# Altium integrated library TI Power Management Lighting and Display.IntLib: 745 symbols (part 31 of 48)
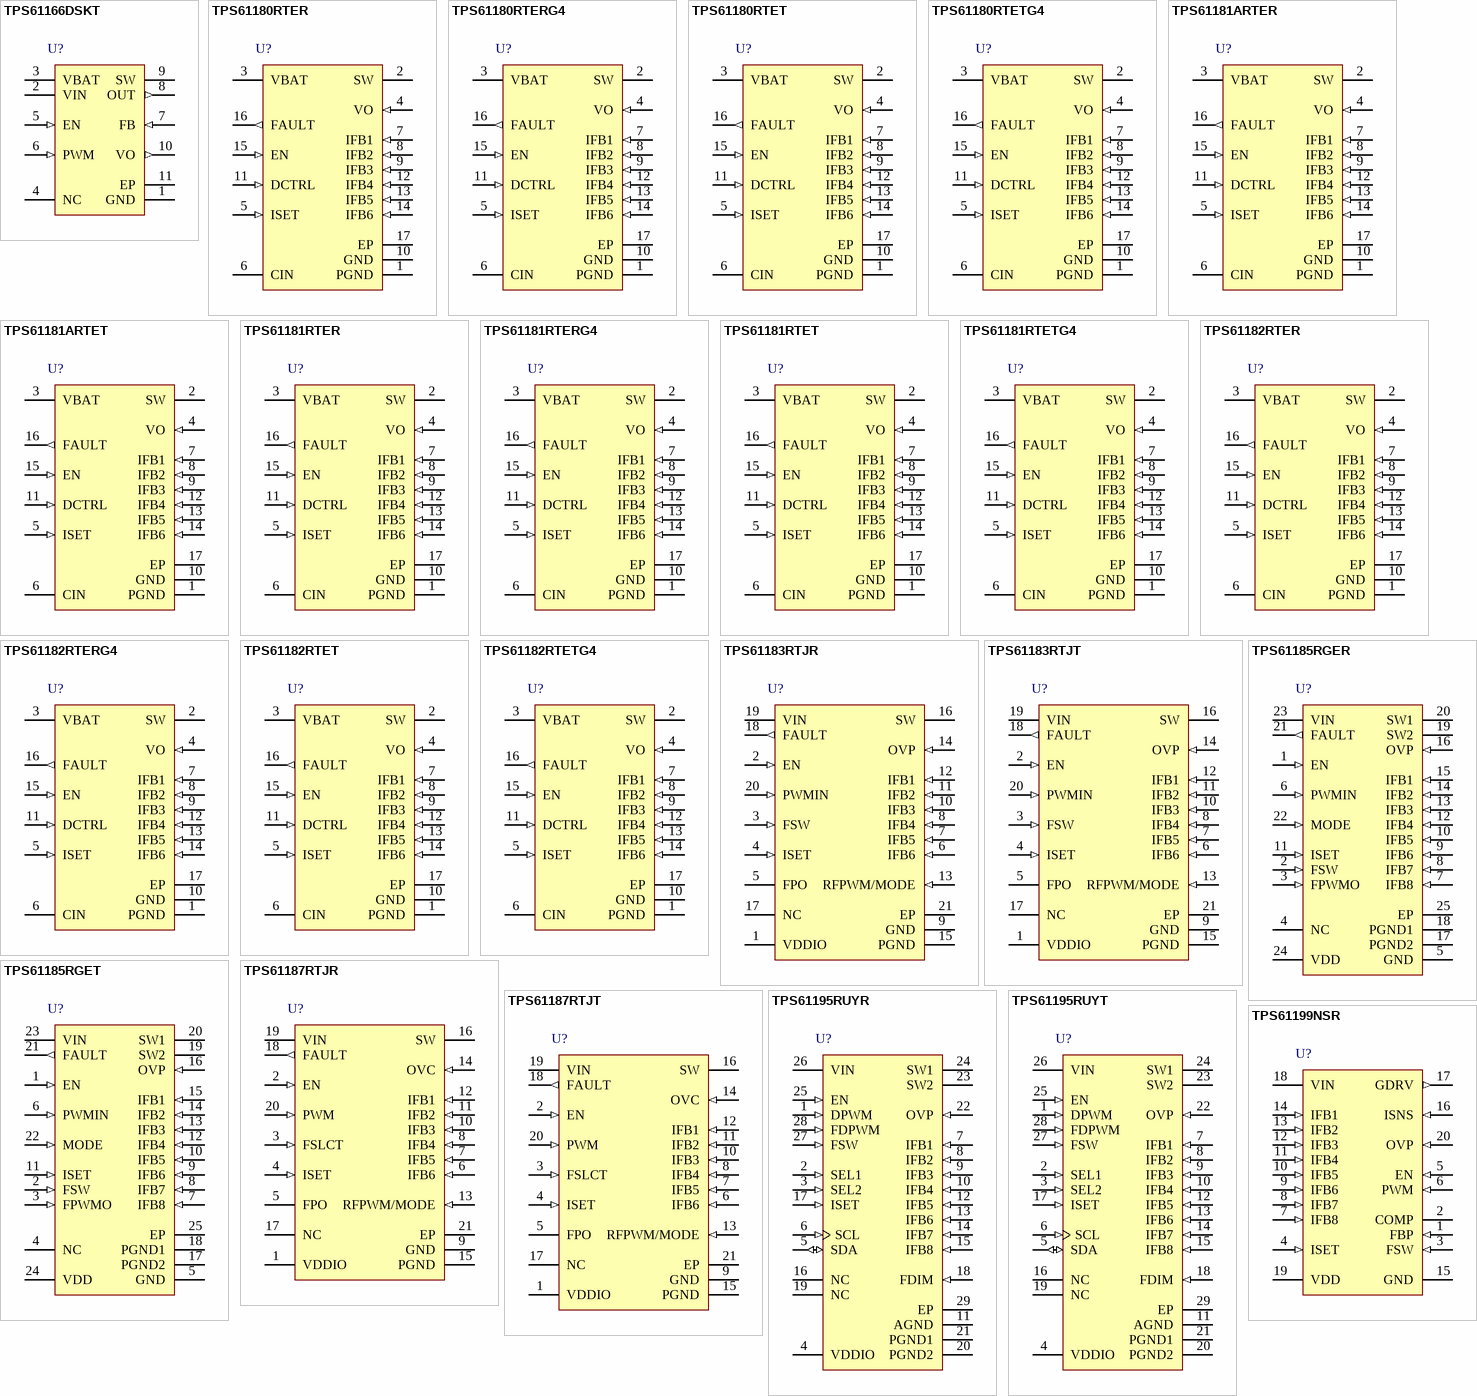
[diagram p61: symbols TPS61166DSKT to TPS61199NSR]

## TPS61195RUYT
designator U?
96 LED, 8-Channel White LED Driver for LCD Backlight with SMBus Interface, 4.5 to 21 V, -40 to 85 degC, 28-pin QFN (RUY28), Green (RoHS & no Sb/Br); Manufacturer: Texas Instruments; PartNumber: TPS61195RUYT; Dimming: TRUE; Iout(Max)(A): 0.24; Iq(Typ)(mA): 3; Rating: Catalog; Switching Frequency(Max)(kHz): 1000; Topology: Boost; Vin(Max)(V): 21; Vin(Min)(V): 4.5; DatasheetVersion: SLVSA07A; PackageVersion: 4209428/B; PackageReference: RUY28-2600X2600TP; PackageDescription: 28-Lead, Plastic Flat Pack, Body Size 4 x 4 mm, Pitch 0.4 mm; Supplier 1: Digi-Key; Supplier Part Number 1: 296-27519-2-ND; Supplier 2: Digi-Key; Supplier Part Number 2: 296-27519-1-ND; Supplier 3: Digi-Key; Supplier Part Number 3: 296-27519-6-ND; Supplier 4: Newark; Supplier Part Number 4: 79R8570; Supplier 5: Mouser; Supplier Part Number 5: 595-TPS61195RUYT; Eco-Plan: Green (RoHS & no Sb/Br); SubFamily: White LED Driver; Mounting Technology: Surface Mount; ComponentLink1Description: Manufacturer URL; ComponentLink1URL: http://www.ti.com/; ComponentLink2Description: Datasheet; ComponentLink2URL: http://www.ti.com/general/docs/lit/getliterature.tsp?genericPartNumber=TPS61195&fileType=pdf; ComponentLink3Description: Package Specification; ComponentLink3URL: http://www.ti.com/litv/pdf/mpqf229a
footprint TI-RUY28-2600X2600TP_V (QFN, 28-Leads, Body 4x4mm, Pitch 0.4mm, Thermal Pad 2.6x2.6mm)
pins: 1 DPWM (in) "PWM signal input pin. The frequency of PWM signal must be in the range of 200Hz to 20kHz", 2 SEL1 (in) "Dimming mode selection pin. See Table 1 for a detailed explanation.", 3 SEL2 (in) "Dimming mode selection pin. See Table 1 for a detailed explanation.", 4 VDDIO (power) "Serial bus voltage level pin. This pin should only have the recommended capacitive load.", 5 SDA (io) "SMBus data input/output pin", 6 SCL (in) "SMBus clock input pin", 7 IFB1 (in) "Regulated 30mA typical current sink input pins. Connect the cathode of the last LED in each of the eight strings to one of these pins.", 8 IFB2 (in) "Regulated 30mA typical current sink input pins. Connect the cathode of the last LED in each of the eight strings to one of these pins.", 9 IFB3 (in) "Regulated 30mA typical current sink input pins. Connect the cathode of the last LED in each of the eight strings to one of these pins.", 10 IFB4 (in) "Regulated 30mA typical current sink input pins. Connect the cathode of the last LED in each of the eight strings to one of these pins.", 11 AGND (power) "Analog ground", 12 IFB5 (in) "Regulated 30mA typical current sink input pins. Connect the cathode of the last LED in each of the eight strings to one of these pins.", 13 IFB6 (in) "Regulated 30mA typical current sink input pins. Connect the cathode of the last LED in each of the eight strings to one of these pins.", 14 IFB7 (in) "Regulated 30mA typical current sink input pins. Connect the cathode of the last LED in each of the eight strings to one of these pins.", 15 IFB8 (in) "Regulated 30mA typical current sink input pins. Connect the cathode of the last LED in each of the eight strings to one of these pins.", 16 NC "AGND internal. External to AGND is recommended.", 17 ISET (in) "Full-scale LED current set pin. Connecting a resistor from this pin to AGND programs the maximum current level.", 18 FDIM (in) "Dimming frequency program pin with an external resistor. Connecting a resistor from this pin to AGND programs the internal PWM dimming frequency.", 19 NC "AGND internal. External track tie to AGND is recommended.", 20 PGND2 (power) "Power ground", 21 PGND1 (power) "Power ground", 22 OVP (in) "Over-voltage program pin. A resistor divider between the boost converter output to AGND, with mid point tied to this pin sets the over-voltage protection threshold.", 23 SW2 (power) "Drain connection of the internal power FET", 24 SW1 (power) "Drain connection of the internal power FET", 25 EN (in) "SDAble and Disable Pin. EN high = SDAble, EN low = Disable and de-actives SMBus interface.", 26 VIN (power) "Supply input pin", 27 FSW (in) "Switching frequency select pin. Use a resistor to set the frequency between 600kHz to 1.0MHz", 28 FDPWM (in) "Place a 43.2k ohm resistor from this pin to AGND programming the internal clock for counting PWM input duty cycle.", 29 EP (power) "Exposed Thermal Pad"

## TPS61199NSR
designator U?
White LED Driver for LCD Monitors Backlighting, 8 to 30 V, -40 to 85 degC, 20-pin SOP (NS20), Green (RoHS & no Sb/Br); Manufacturer: Texas Instruments; PartNumber: TPS61199NSR; Iout(Max)(A): 0.48; Iq(Typ)(mA): 1.5; Rating: Catalog; Switching Frequency(Max)(kHz): 800; Topology: Boost; Vin(Max)(V): 30; Vin(Min)(V): 8; DatasheetVersion: SLVSAN3 A; PackageVersion: 4040062/C; PackageReference: NS20; PackageDescription: 20-Lead, Plastic Small Outline, Body Size 5.3 x 12.6 mm, Pitch 1.27 mm; Supplier 1: Digi-Key; Supplier Part Number 1: 296-28160-2-ND; Supplier 2: Digi-Key; Supplier Part Number 2: 296-28160-1-ND; Supplier 3: Digi-Key; Supplier Part Number 3: 296-28160-6-ND; Supplier 4: Mouser; Supplier Part Number 4: 595-TPS61199NSR; Eco-Plan: Green (RoHS & no Sb/Br); SubFamily: White LED Driver; Mounting Technology: Surface Mount; ComponentLink1Description: Manufacturer URL; ComponentLink1URL: http://www.ti.com/; ComponentLink2Description: Datasheet; ComponentLink2URL: http://www.ti.com/general/docs/lit/getliterature.tsp?genericPartNumber=TPS61199&fileType=pdf; ComponentLink3Description: Package Specification; ComponentLink3URL: http://www.ti.com/litv/pdf/msop002a
footprint TI-NS20_N (SOP, 20-Leads, Body 12.6x5.3mm, Pitch 1.27mm, IPC Medium Density)
footprint TI-NS20_L (SOP, 20-Leads, Body 12.6x5.3mm, Pitch 1.27mm, IPC High Density)
footprint TI-NS20_M (SOP, 20-Leads, Body 12.6x5.3mm, Pitch 1.27mm, IPC Low Density)
pins: 1 FBP (in) "LED short-across protection threshold program pin. See the relevant application information section", 2 COMP "Loop compensation pin. Connect an RC network to make loop stable. See the relevant application information section.", 3 FSW (in) "Boost switching frequency selection pin. Connect a resistor to set the frequency between 300kHz to 800 kHz", 4 ISET (in) "Full-scale LED current selection pin. Connect a resistor to program LED current for each string", 5 EN (in) "Enable/disable Pin. High = IC is enabled; low = IC is disabled.", 6 PWM (in) "PWM dimming signal input pin. The frequency must be in the range of 100Hz to 22 kHz", 7 IFB8 (in) "Regulated current sink input pins.", 8 IFB7 (in) "Regulated current sink input pins.", 9 IFB6 (in) "Regulated current sink input pins.", 10 IFB5 (in) "Regulated current sink input pins.", 11 IFB4 (in) "Regulated current sink input pins.", 12 IFB3 (in) "Regulated current sink input pins.", 13 IFB2 (in) "Regulated current sink input pins.", 14 IFB1 (in) "Regulated current sink input pins.", 15 GND (power) "Ground pin", 16 ISNS (in) "External MOSFET current sense positive input pin.", 17 GDRV (out) "External Switch MOSFET gate driver output pin.", 18 VIN (power) "Supply input pin. This pin can be tied to a voltage different from the power stage input.", 19 VDD (power) "Internal regulator output pin. Connect a 2.2uF capacitor between this pin to GND.", 20 OVP (in) "Over voltage protection pin. See the relevant application information section"

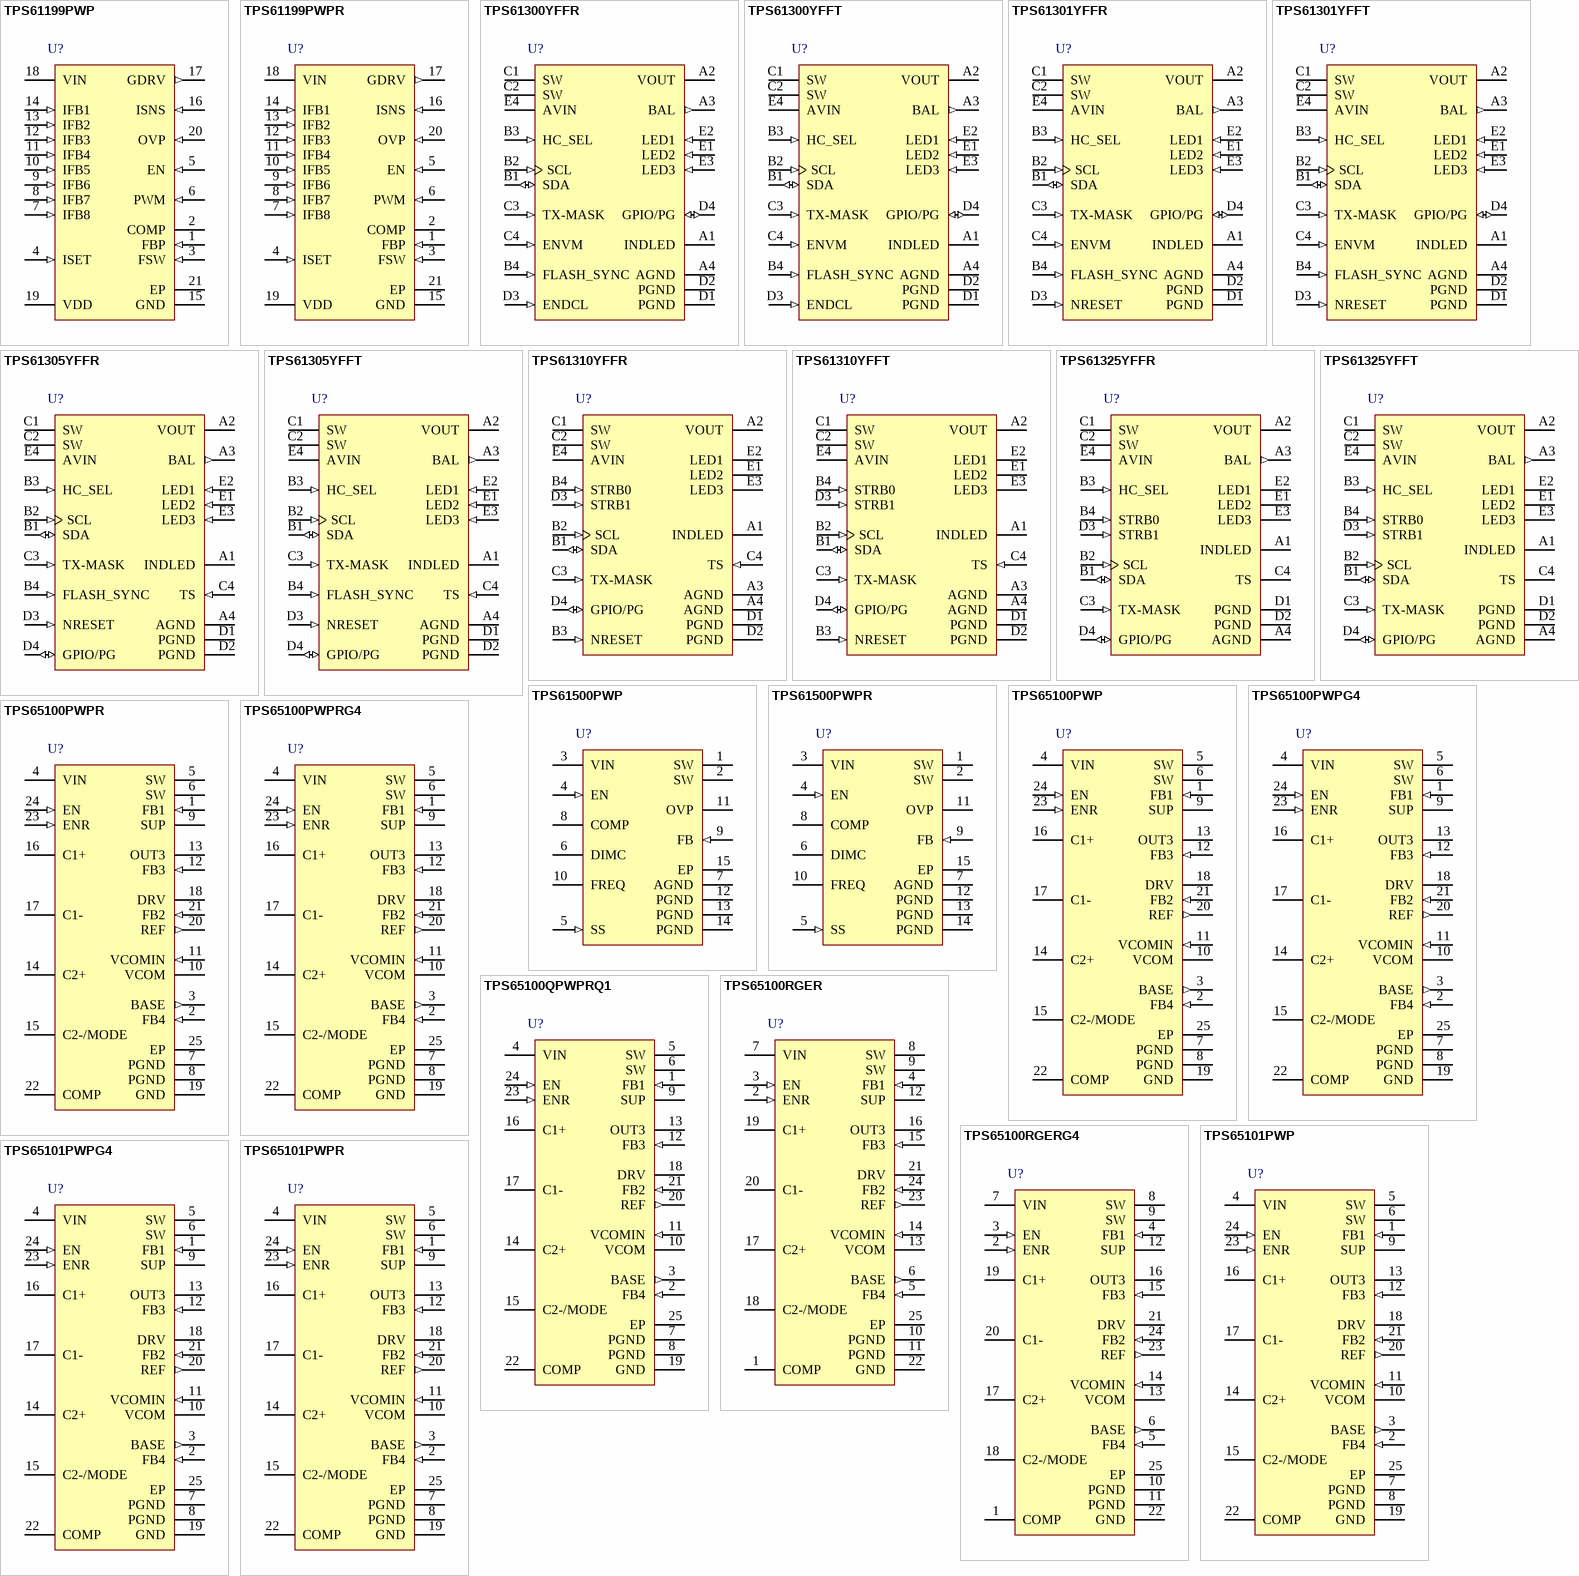
[diagram p20: symbols TPS61199PWP to TPS65101PWPR]

## TPS61199PWP
designator U?
White LED Driver for LCD Monitors Backlighting, 8 to 30 V, -40 to 85 degC, 20-pin SOP (PWP20), Green (RoHS & no Sb/Br); Manufacturer: Texas Instruments; PartNumber: TPS61199PWP; Iout(Max)(A): 0.48; Iq(Typ)(mA): 1.5; Rating: Catalog; Switching Frequency(Max)(kHz): 800; Topology: Boost; Vin(Max)(V): 30; Vin(Min)(V): 8; DatasheetVersion: SLVSAN3 A; PackageVersion: 4073225-4/I; PackageReference: PWP20-3005X2005TP; PackageDescription: 20-Pin Plastic Small Outline, Body 6.50 x 4.40 mm, Pitch 0.65 mm; Supplier 1: Digi-Key; Supplier Part Number 1: 296-34627-5-ND; Supplier 2: Newark; Supplier Part Number 2: 24T4830; Supplier 3: Mouser; Supplier Part Number 3: 595-TPS61199PWP; Eco-Plan: Green (RoHS & no Sb/Br); SubFamily: White LED Driver; Mounting Technology: Surface Mount; Code_JEDEC: MO-153; ComponentLink1Description: Manufacturer URL; ComponentLink1URL: http://www.ti.com/; ComponentLink2Description: Datasheet; ComponentLink2URL: http://www.ti.com/general/docs/lit/getliterature.tsp?genericPartNumber=TPS61199&fileType=pdf; ComponentLink3Description: Package Specification; ComponentLink3URL: http://www.ti.com/lit/ml/mhts001g/mhts001g.pdf
footprint TI-PWP20-3005X2005TP_N (SOP, 20-Leads, Body 6.5x4.4mm, Pitch 0.65mm, Thermal Pad 3.005 x 2.005mm, IPC Medium Density)
footprint TI-PWP20-3005X2005TP_L (SOP, 20-Leads, Body 6.5x4.4mm, Pitch 0.65mm, Thermal Pad 3.005 x 2.005mm, IPC High Density)
footprint TI-PWP20-3005X2005TP_M (SOP, 20-Leads, Body 6.5x4.4mm, Pitch 0.65mm, Thermal Pad 3.005 x 2.005mm, IPC Low Density)
pins: 1 FBP (in) "LED short-across protection threshold program pin. See the relevant application information section", 2 COMP "Loop compensation pin. Connect an RC network to make loop stable. See the relevant application information section.", 3 FSW (in) "Boost switching frequency selection pin. Connect a resistor to set the frequency between 300kHz to 800 kHz", 4 ISET (in) "Full-scale LED current selection pin. Connect a resistor to program LED current for each string", 5 EN (in) "Enable/disable Pin. High = IC is enabled; low = IC is disabled.", 6 PWM (in) "PWM dimming signal input pin. The frequency must be in the range of 100Hz to 22 kHz", 7 IFB8 (in) "Regulated current sink input pins.", 8 IFB7 (in) "Regulated current sink input pins.", 9 IFB6 (in) "Regulated current sink input pins.", 10 IFB5 (in) "Regulated current sink input pins.", 11 IFB4 (in) "Regulated current sink input pins.", 12 IFB3 (in) "Regulated current sink input pins.", 13 IFB2 (in) "Regulated current sink input pins.", 14 IFB1 (in) "Regulated current sink input pins.", 15 GND (power) "Ground pin", 16 ISNS (in) "External MOSFET current sense positive input pin", 17 GDRV (out) "External Switch MOSFET gate driver output pin.", 18 VIN (power) "Supply input pin. This pin can be tied to a voltage different from the power stage input.", 19 VDD (power) "Internal regulator output pin. Connect a 2.2uF capacitor between this pin to GND", 20 OVP (in) "Over voltage protection pin. See the relevant application information section", 21 EP (power) "The PowerPAD pad must be soldered to the ground. If possible, use thermal vias to connect to top and internal ground plane layers for ideal power dissipation."

## TPS61199PWPR
designator U?
White LED Driver for LCD Monitors Backlighting, 8 to 30 V, -40 to 85 degC, 20-pin SOP (PWP20), Green (RoHS & no Sb/Br); Manufacturer: Texas Instruments; PartNumber: TPS61199PWPR; Iout(Max)(A): 0.48; Iq(Typ)(mA): 1.5; Rating: Catalog; Switching Frequency(Max)(kHz): 800; Topology: Boost; Vin(Max)(V): 30; Vin(Min)(V): 8; DatasheetVersion: SLVSAN3 A; PackageVersion: 4073225-4/I; PackageReference: PWP20-3005X2005TP; PackageDescription: 20-Pin Plastic Small Outline, Body 6.50 x 4.40 mm, Pitch 0.65 mm; Supplier 1: Digi-Key; Supplier Part Number 1: 296-28161-2-ND; Supplier 2: Digi-Key; Supplier Part Number 2: 296-28161-1-ND; Supplier 3: Digi-Key; Supplier Part Number 3: 296-28161-6-ND; Supplier 4: Newark; Supplier Part Number 4: 24T4831; Supplier 5: Mouser; Supplier Part Number 5: 595-TPS61199PWPR; Eco-Plan: Green (RoHS & no Sb/Br); SubFamily: White LED Driver; Mounting Technology: Surface Mount; Code_JEDEC: MO-153; ComponentLink1Description: Manufacturer URL; ComponentLink1URL: http://www.ti.com/; ComponentLink2Description: Datasheet; ComponentLink2URL: http://www.ti.com/general/docs/lit/getliterature.tsp?genericPartNumber=TPS61199&fileType=pdf; ComponentLink3Description: Package Specification; ComponentLink3URL: http://www.ti.com/lit/ml/mhts001g/mhts001g.pdf
footprint TI-PWP20-3005X2005TP_N (SOP, 20-Leads, Body 6.5x4.4mm, Pitch 0.65mm, Thermal Pad 3.005 x 2.005mm, IPC Medium Density)
footprint TI-PWP20-3005X2005TP_L (SOP, 20-Leads, Body 6.5x4.4mm, Pitch 0.65mm, Thermal Pad 3.005 x 2.005mm, IPC High Density)
footprint TI-PWP20-3005X2005TP_M (SOP, 20-Leads, Body 6.5x4.4mm, Pitch 0.65mm, Thermal Pad 3.005 x 2.005mm, IPC Low Density)
pins: 1 FBP (in) "LED short-across protection threshold program pin. See the relevant application information section", 2 COMP "Loop compensation pin. Connect an RC network to make loop stable. See the relevant application information section.", 3 FSW (in) "Boost switching frequency selection pin. Connect a resistor to set the frequency between 300kHz to 800 kHz", 4 ISET (in) "Full-scale LED current selection pin. Connect a resistor to program LED current for each string", 5 EN (in) "Enable/disable Pin. High = IC is enabled; low = IC is disabled.", 6 PWM (in) "PWM dimming signal input pin. The frequency must be in the range of 100Hz to 22 kHz", 7 IFB8 (in) "Regulated current sink input pins.", 8 IFB7 (in) "Regulated current sink input pins.", 9 IFB6 (in) "Regulated current sink input pins.", 10 IFB5 (in) "Regulated current sink input pins.", 11 IFB4 (in) "Regulated current sink input pins.", 12 IFB3 (in) "Regulated current sink input pins.", 13 IFB2 (in) "Regulated current sink input pins.", 14 IFB1 (in) "Regulated current sink input pins.", 15 GND (power) "Ground pin", 16 ISNS (in) "External MOSFET current sense positive input pin", 17 GDRV (out) "External Switch MOSFET gate driver output pin.", 18 VIN (power) "Supply input pin. This pin can be tied to a voltage different from the power stage input.", 19 VDD (power) "Internal regulator output pin. Connect a 2.2uF capacitor between this pin to GND", 20 OVP (in) "Over voltage protection pin. See the relevant application information section", 21 EP (power) "The PowerPAD pad must be soldered to the ground. If possible, use thermal vias to connect to top and internal ground plane layers for ideal power dissipation."

## TPS61300YFFR
designator U?
1.5 A / 4.1 A Multiple LED Camera Flash Driver with I2C Compatible Interface, 2.5 to 5.5 V, -40 to 85 degC, 20-pin BGA (YFF20), Green (RoHS & no Sb/Br); Manufacturer: Texas Instruments; PartNumber: TPS61300YFFR; Dimming: TRUE; Iout(Max)(A): 1.25; Iq(Typ)(mA): 0.59; Rating: Catalog; SubFamily: White LED Driver; Switching Frequency(Max)(kHz): 2000; Topology: Boost; Vin(Max)(V): 5.5; Vin(Min)(V): 2.5; DatasheetVersion: SLVS957D; PackageVersion: 4207625-9/AJ; PackageReference: YFF20; PackageDescription: 20-Ball, Silicon Grid Array, Body Size 2.17 x 1.93 mm, Pitch 0.4 mm; Supplier 1: Digi-Key; Supplier Part Number 1: TPS61300YFFR-ND; Supplier 2: Newark; Supplier Part Number 2: 21T4331; Supplier 3: Mouser; Supplier Part Number 3: 595-TPS61300YFFR; Eco-Plan: Green (RoHS & no Sb/Br); Synchronous Rectification: TRUE; Mounting Technology: Surface Mount; ComponentLink1Description: Manufacturer URL; ComponentLink1URL: http://www.ti.com/; ComponentLink2Description: Datasheet; ComponentLink2URL: http://www.ti.com/general/docs/lit/getliterature.tsp?genericPartNumber=TPS61300&fileType=pdf; ComponentLink3Description: Package Specification; ComponentLink3URL: http://www.ti.com/lit/ds/symlink/tps61300.pdf
footprint TI-YFF20-2170X1928DE (BGA, 20-Balls, Body 2.17x1.928mm, Pitch 0.4mm)
pins: A1 INDLED (power) "This pin provides a constant current source to drive low VF LEDs. Connect to LED anode.", A2 VOUT (power) "This is the output voltage pin of the converter.", A3 BAL (out) "Balancing output for dual cells super-capacitor. In steady-state operation, this output compensates for leakage current mismatch between the cells.", A4 AGND (power) "Analog ground", B1 SDA (io) "Serial interface address/data line. This pin must not be left floating and must be terminated.", B2 SCL (in) "Serial interface clock line. This pin must not be left floating and must be terminated.", B3 HC_SEL (in) "Extended high-current mode selection input. This pin must not be left floating and must be terminated. HC_SEL = LOW: LED direct drive mode. The power stage is active and the maximum LED currents are defined as (See Datasheet)", B4 FLASH_SYNC (in) "Flashlight strobe pulse synchronization input. FLASH_SYNC = LOW: The device is operating and regulating the LED current to the DC light current level (DCLC). FLASH_SYNC = HIGH: The device is operating and regulating the LED (See Datasheet)", C1 SW (power) "Inductor connection. Drain of the internal power MOSFET. Connect to the switched side of the inductor. SW is high impedance during shutdown.", C2 SW (power) "Inductor connection. Drain of the internal power MOSFET. Connect to the switched side of the inductor. SW is high impedance during shutdown.", C3 TX-MASK (in) "RF PA synchronization control input. Pulling this pin high turns the LED from flashlight to DC light operation, thereby reducing almost instantaneously the peak current loading from the battery", C4 ENVM (in) "Enable pin for voltage mode converter. Pulling this pin high forces the device into voltage regulation mode (VOUT is preset to a fixed value, 4.95V).", D1 PGND (power) "Power ground. Connect to AGND underneath IC.", D2 PGND (power) "Power ground. Connect to AGND underneath IC.", D3 ENDCL (in) "Hardware control pin for DC light operation. Pulling this pin high forces the device into DC light operation. The ENDCL input is only active when the device is programmed into shutdown or voltage mode regulation. LED1-3 (See Datasheet)", D4 GPIO/PG (io) "This pin can either be configured as a general purpose input/output pin (GPIO) or either as an open-drain or a push-pull output to signal when the converters output voltage is within the regulation limits (PG). Per default, (See Datasheet)", E1 LED2 (in) "LED return input. This feedback pin regulates the LED current through the internal sense resistor by regulating the voltage across it. The regulation operates with typically 400mV (HC_SEL = L) or 400mV HC_SEL = H) dropout (See Datasheet)", E2 LED1 (in) "LED return input. This feedback pin regulates the LED current through the internal sense resistor by regulating the voltage across it. The regulation operates with typically 400mV (HC_SEL = L) or 400mV HC_SEL = H) dropout (See Datasheet)", E3 LED3 (in) "LED return input. This feedback pin regulates the LED current through the internal sense resistor by regulating the voltage across it. The regulation operates with typically 400mV (HC_SEL = L) or 400mV HC_SEL = H) dropout (See Datasheet)", E4 AVIN (power) "This is the input voltage pin of the device. Connect directly to the input bypass capacitor."

## TPS61300YFFT
designator U?
1.5 A / 4.1 A Multiple LED Camera Flash Driver with I2C Compatible Interface, 2.5 to 5.5 V, -40 to 85 degC, 20-pin BGA (YFF20), Green (RoHS & no Sb/Br); Manufacturer: Texas Instruments; PartNumber: TPS61300YFFT; Dimming: TRUE; Iout(Max)(A): 1.25; Iq(Typ)(mA): 0.59; Rating: Catalog; SubFamily: White LED Driver; Switching Frequency(Max)(kHz): 2000; Topology: Boost; Vin(Max)(V): 5.5; Vin(Min)(V): 2.5; DatasheetVersion: SLVS957D; PackageVersion: 4207625-9/AJ; PackageReference: YFF20; PackageDescription: 20-Ball, Silicon Grid Array, Body Size 2.17 x 1.93 mm, Pitch 0.4 mm; Supplier 1: Digi-Key; Supplier Part Number 1: 296-28022-2-ND; Supplier 2: Digi-Key; Supplier Part Number 2: 296-28022-1-ND; Supplier 3: Digi-Key; Supplier Part Number 3: 296-28022-6-ND; Supplier 4: Mouser; Supplier Part Number 4: 595-TPS61300YFFT; Eco-Plan: Green (RoHS & no Sb/Br); Synchronous Rectification: TRUE; Mounting Technology: Surface Mount; ComponentLink1Description: Manufacturer URL; ComponentLink1URL: http://www.ti.com/; ComponentLink2Description: Datasheet; ComponentLink2URL: http://www.ti.com/general/docs/lit/getliterature.tsp?genericPartNumber=TPS61300&fileType=pdf; ComponentLink3Description: Package Specification; ComponentLink3URL: http://www.ti.com/lit/ds/symlink/tps61300.pdf
footprint TI-YFF20-2170X1928DE (BGA, 20-Balls, Body 2.17x1.928mm, Pitch 0.4mm)
pins: A1 INDLED (power) "This pin provides a constant current source to drive low VF LEDs. Connect to LED anode.", A2 VOUT (power) "This is the output voltage pin of the converter.", A3 BAL (out) "Balancing output for dual cells super-capacitor. In steady-state operation, this output compensates for leakage current mismatch between the cells.", A4 AGND (power) "Analog ground", B1 SDA (io) "Serial interface address/data line. This pin must not be left floating and must be terminated.", B2 SCL (in) "Serial interface clock line. This pin must not be left floating and must be terminated.", B3 HC_SEL (in) "Extended high-current mode selection input. This pin must not be left floating and must be terminated. HC_SEL = LOW: LED direct drive mode. The power stage is active and the maximum LED currents are defined as (See Datasheet)", B4 FLASH_SYNC (in) "Flashlight strobe pulse synchronization input. FLASH_SYNC = LOW: The device is operating and regulating the LED current to the DC light current level (DCLC). FLASH_SYNC = HIGH: The device is operating and regulating the LED (See Datasheet)", C1 SW (power) "Inductor connection. Drain of the internal power MOSFET. Connect to the switched side of the inductor. SW is high impedance during shutdown.", C2 SW (power) "Inductor connection. Drain of the internal power MOSFET. Connect to the switched side of the inductor. SW is high impedance during shutdown.", C3 TX-MASK (in) "RF PA synchronization control input. Pulling this pin high turns the LED from flashlight to DC light operation, thereby reducing almost instantaneously the peak current loading from the battery", C4 ENVM (in) "Enable pin for voltage mode converter. Pulling this pin high forces the device into voltage regulation mode (VOUT is preset to a fixed value, 4.95V).", D1 PGND (power) "Power ground. Connect to AGND underneath IC.", D2 PGND (power) "Power ground. Connect to AGND underneath IC.", D3 ENDCL (in) "Hardware control pin for DC light operation. Pulling this pin high forces the device into DC light operation. The ENDCL input is only active when the device is programmed into shutdown or voltage mode regulation. LED1-3 (See Datasheet)", D4 GPIO/PG (io) "This pin can either be configured as a general purpose input/output pin (GPIO) or either as an open-drain or a push-pull output to signal when the converters output voltage is within the regulation limits (PG). Per default, (See Datasheet)", E1 LED2 (in) "LED return input. This feedback pin regulates the LED current through the internal sense resistor by regulating the voltage across it. The regulation operates with typically 400mV (HC_SEL = L) or 400mV HC_SEL = H) dropout (See Datasheet)", E2 LED1 (in) "LED return input. This feedback pin regulates the LED current through the internal sense resistor by regulating the voltage across it. The regulation operates with typically 400mV (HC_SEL = L) or 400mV HC_SEL = H) dropout (See Datasheet)", E3 LED3 (in) "LED return input. This feedback pin regulates the LED current through the internal sense resistor by regulating the voltage across it. The regulation operates with typically 400mV (HC_SEL = L) or 400mV HC_SEL = H) dropout (See Datasheet)", E4 AVIN (power) "This is the input voltage pin of the device. Connect directly to the input bypass capacitor."

## TPS61301YFFR
designator U?
1.5 A / 4.1 A Multiple LED Camera Flash Driver with I2C Compatible Interface and Hardware Reset Input, 2.5 to 5.5 V, -40 to 85 degC, 20-pin BGA (YFF20), Green (RoHS & no Sb/Br); Manufacturer: Texas Instruments; PartNumber: TPS61301YFFR; Dimming: TRUE; Iout(Max)(A): 1.25; Iq(Typ)(mA): 0.59; Rating: Catalog; SubFamily: White LED Driver; Switching Frequency(Max)(kHz): 2000; Topology: Boost; Vin(Max)(V): 5.5; Vin(Min)(V): 2.5; DatasheetVersion: SLVS957D; PackageVersion: 4207625-9/AJ; PackageReference: YFF20; PackageDescription: 20-Ball, Silicon Grid Array, Body Size 2.17 x 1.93 mm, Pitch 0.4 mm; Supplier 1: Digi-Key; Supplier Part Number 1: TPS61301YFFR-ND; Supplier 2: Newark; Supplier Part Number 2: 21T4333; Supplier 3: Mouser; Supplier Part Number 3: 595-TPS61301YFFR; Eco-Plan: Green (RoHS & no Sb/Br); Synchronous Rectification: TRUE; Mounting Technology: Surface Mount; ComponentLink1Description: Manufacturer URL; ComponentLink1URL: http://www.ti.com/; ComponentLink2Description: Datasheet; ComponentLink2URL: http://www.ti.com/general/docs/lit/getliterature.tsp?genericPartNumber=TPS61301&fileType=pdf; ComponentLink3Description: Package Specification; ComponentLink3URL: http://www.ti.com/lit/ds/symlink/tps61300.pdf
footprint TI-YFF20-2170X1928DE (BGA, 20-Balls, Body 2.17x1.928mm, Pitch 0.4mm)
pins: A1 INDLED (power) "This pin provides a constant current source to drive low VF LEDs. Connect to LED anode.", A2 VOUT (power) "This is the output voltage pin of the converter", A3 BAL (out) "Balancing output for dual cells super-capacitor. In steady-state operation, this output compensates for leakage current mismatch between the cells.", A4 AGND (power) "Analog ground.", B1 SDA (io) "Serial interface address/data line. This pin must not be left floating and must be terminated", B2 SCL (in) "Serial interface clock line. This pin must not be left floating and must be terminated.", B3 HC_SEL (in) "Extended high-current mode selection input. This pin must not be left floating and must be terminated. HC_SEL = LOW: LED direct drive mode. The power stage is active and the maximum LED currents are defined as (See Datasheet)", B4 FLASH_SYNC (in) "Flashlight strobe pulse synchronization input. FLASH_SYNC = LOW: The device is operating and regulating the LED current to the DC light current level (DCLC). FLASH_SYNC = HIGH: The device is operating and regulating the LED (See Datasheet)", C1 SW (power) "Inductor connection. Drain of the internal power MOSFET. Connect to the switched side of the inductor. SW is high impedance during shutdown.", C2 SW (power) "Inductor connection. Drain of the internal power MOSFET. Connect to the switched side of the inductor. SW is high impedance during shutdown.", C3 TX-MASK (in) "RF PA synchronization control input. Pulling this pin high turns the LED from flashlight to DC light operation, thereby reducing almost instantaneously the peak current loading from the battery.", C4 ENVM (in) "Enable pin for voltage mode converter. Pulling this pin high forces the device into voltage regulation mode (VOUT is preset to a fixed value, 4.95V).", D1 PGND (power) "Power ground. Connect to AGND underneath IC.", D2 PGND (power) "Power ground. Connect to AGND underneath IC.", D3 NRESET (in) "Master hardware reset input. NRESET = LOW: The device is forced in shutdown mode and the I2C control I/F is reset. NRESET = HIGH: The device is operating normally under the control of the I2C interface.", D4 GPIO/PG (io) "This pin can either be configured as a general purpose input/output pin (GPIO) or either as an open-drain or a push-pull output to signal when the converters output voltage is within the regulation limits (PG). Per default, (See Datasheet)", E1 LED2 (in) "LED return input. This feedback pin regulates the LED current through the internal sense resistor by regulating the voltage across it. The regulation operates with typically 400mV (HC_SEL = L) or 400mV (HC_SEL = H) dropout (See Datasheet)", E2 LED1 (in) "LED return input. This feedback pin regulates the LED current through the internal sense resistor by regulating the voltage across it. The regulation operates with typically 400mV (HC_SEL = L) or 400mV (HC_SEL = H) dropout (See Datasheet)", E3 LED3 (in) "LED return input. This feedback pin regulates the LED current through the internal sense resistor by regulating the voltage across it. The regulation operates with typically 400mV (HC_SEL = L) or 400mV (HC_SEL = H) dropout (See Datasheet)", E4 AVIN (power) "This is the input voltage pin of the device. Connect directly to the input bypass capacitor."

## TPS61301YFFT
designator U?
1.5 A / 4.1 A Multiple LED Camera Flash Driver with I2C Compatible Interface and Hardware Reset Input, 2.5 to 5.5 V, -40 to 85 degC, 20-pin BGA (YFF20), Green (RoHS & no Sb/Br); Manufacturer: Texas Instruments; PartNumber: TPS61301YFFT; Dimming: TRUE; Iout(Max)(A): 1.25; Iq(Typ)(mA): 0.59; Rating: Catalog; SubFamily: White LED Driver; Switching Frequency(Max)(kHz): 2000; Topology: Boost; Vin(Max)(V): 5.5; Vin(Min)(V): 2.5; DatasheetVersion: SLVS957D; PackageVersion: 4207625-9/AJ; PackageReference: YFF20; PackageDescription: 20-Ball, Silicon Grid Array, Body Size 2.17 x 1.93 mm, Pitch 0.4 mm; Supplier 1: Digi-Key; Supplier Part Number 1: 296-28020-2-ND; Supplier 2: Digi-Key; Supplier Part Number 2: 296-28020-1-ND; Supplier 3: Digi-Key; Supplier Part Number 3: 296-28020-6-ND; Supplier 4: Newark; Supplier Part Number 4: 21T4334; Supplier 5: Mouser; Supplier Part Number 5: 595-TPS61301YFFT; Eco-Plan: Green (RoHS & no Sb/Br); Synchronous Rectification: TRUE; Mounting Technology: Surface Mount; ComponentLink1Description: Manufacturer URL; ComponentLink1URL: http://www.ti.com/; ComponentLink2Description: Datasheet; ComponentLink2URL: http://www.ti.com/general/docs/lit/getliterature.tsp?genericPartNumber=TPS61301&fileType=pdf; ComponentLink3Description: Package Specification; ComponentLink3URL: http://www.ti.com/lit/ds/symlink/tps61300.pdf
footprint TI-YFF20-2170X1928DE (BGA, 20-Balls, Body 2.17x1.928mm, Pitch 0.4mm)
pins: A1 INDLED (power) "This pin provides a constant current source to drive low VF LEDs. Connect to LED anode.", A2 VOUT (power) "This is the output voltage pin of the converter", A3 BAL (out) "Balancing output for dual cells super-capacitor. In steady-state operation, this output compensates for leakage current mismatch between the cells.", A4 AGND (power) "Analog ground.", B1 SDA (io) "Serial interface address/data line. This pin must not be left floating and must be terminated", B2 SCL (in) "Serial interface clock line. This pin must not be left floating and must be terminated.", B3 HC_SEL (in) "Extended high-current mode selection input. This pin must not be left floating and must be terminated. HC_SEL = LOW: LED direct drive mode. The power stage is active and the maximum LED currents are defined as (See Datasheet)", B4 FLASH_SYNC (in) "Flashlight strobe pulse synchronization input. FLASH_SYNC = LOW: The device is operating and regulating the LED current to the DC light current level (DCLC). FLASH_SYNC = HIGH: The device is operating and regulating the LED (See Datasheet)", C1 SW (power) "Inductor connection. Drain of the internal power MOSFET. Connect to the switched side of the inductor. SW is high impedance during shutdown.", C2 SW (power) "Inductor connection. Drain of the internal power MOSFET. Connect to the switched side of the inductor. SW is high impedance during shutdown.", C3 TX-MASK (in) "RF PA synchronization control input. Pulling this pin high turns the LED from flashlight to DC light operation, thereby reducing almost instantaneously the peak current loading from the battery.", C4 ENVM (in) "Enable pin for voltage mode converter. Pulling this pin high forces the device into voltage regulation mode (VOUT is preset to a fixed value, 4.95V).", D1 PGND (power) "Power ground. Connect to AGND underneath IC.", D2 PGND (power) "Power ground. Connect to AGND underneath IC.", D3 NRESET (in) "Master hardware reset input. NRESET = LOW: The device is forced in shutdown mode and the I2C control I/F is reset. NRESET = HIGH: The device is operating normally under the control of the I2C interface.", D4 GPIO/PG (io) "This pin can either be configured as a general purpose input/output pin (GPIO) or either as an open-drain or a push-pull output to signal when the converters output voltage is within the regulation limits (PG). Per default, (See Datasheet)", E1 LED2 (in) "LED return input. This feedback pin regulates the LED current through the internal sense resistor by regulating the voltage across it. The regulation operates with typically 400mV (HC_SEL = L) or 400mV (HC_SEL = H) dropout (See Datasheet)", E2 LED1 (in) "LED return input. This feedback pin regulates the LED current through the internal sense resistor by regulating the voltage across it. The regulation operates with typically 400mV (HC_SEL = L) or 400mV (HC_SEL = H) dropout (See Datasheet)", E3 LED3 (in) "LED return input. This feedback pin regulates the LED current through the internal sense resistor by regulating the voltage across it. The regulation operates with typically 400mV (HC_SEL = L) or 400mV (HC_SEL = H) dropout (See Datasheet)", E4 AVIN (power) "This is the input voltage pin of the device. Connect directly to the input bypass capacitor."

## TPS61305YFFR
designator U?
1.5 A / 4.1 A Multiple LED Camera Flash Driver with I2C Compatible Interface and LED Temp Monitoring, 2.5 to 5.5 V, -40 to 85 degC, 20-pin BGA (YFF20), Green (RoHS & no Sb/Br); Manufacturer: Texas Instruments; PartNumber: TPS61305YFFR; Dimming: TRUE; Iout(Max)(A): 1.25; Iq(Typ)(mA): 0.59; Rating: Catalog; SubFamily: White LED Driver; Switching Frequency(Max)(kHz): 2000; Topology: Boost; Vin(Max)(V): 5.5; Vin(Min)(V): 2.5; DatasheetVersion: SLVS957D; PackageVersion: 4207625-9/AJ; PackageReference: YFF20; PackageDescription: 20-Ball, Silicon Grid Array, Body Size 2.17 x 1.93 mm, Pitch 0.4 mm; Supplier 1: Digi-Key; Supplier Part Number 1: TPS61305YFFR-ND; Supplier 2: Mouser; Supplier Part Number 2: 595-TPS61305YFFR; Eco-Plan: Green (RoHS & no Sb/Br); Synchronous Rectification: TRUE; Mounting Technology: Surface Mount; ComponentLink1Description: Manufacturer URL; ComponentLink1URL: http://www.ti.com/; ComponentLink2Description: Datasheet; ComponentLink2URL: http://www.ti.com/general/docs/lit/getliterature.tsp?genericPartNumber=TPS61305&fileType=pdf; ComponentLink3Description: Package Specification; ComponentLink3URL: http://www.ti.com/lit/ds/symlink/tps61300.pdf
footprint TI-YFF20-2170X1928DE (BGA, 20-Balls, Body 2.17x1.928mm, Pitch 0.4mm)
pins: A1 INDLED (power) "This pin provides a constant current source to drive low VF LEDs. Connect to LED anode.", A2 VOUT (power) "This is the output voltage pin of the converter", A3 BAL (out) "Balancing output for dual cells super-capacitor. In steady-state operation, this output compensates for leakage current mismatch between the cells.", A4 AGND (power) "Analog ground.", B1 SDA (io) "Serial interface address/data line. This pin must not be left floating and must be terminated", B2 SCL (in) "Serial interface clock line. This pin must not be left floating and must be terminated.", B3 HC_SEL (in) "Extended high-current mode selection input. This pin must not be left floating and must be terminated. HC_SEL = LOW: LED direct drive mode. The power stage is active and the maximum LED currents are defined as (See Datasheet)", B4 FLASH_SYNC (in) "Flashlight strobe pulse synchronization input. FLASH_SYNC = LOW: The device is operating and regulating the LED current to the DC light current level (DCLC). FLASH_SYNC = HIGH: The device is operating and regulating the LED (See Datasheet)", C1 SW (power) "Inductor connection. Drain of the internal power MOSFET. Connect to the switched side of the inductor. SW is high impedance during shutdown.", C2 SW (power) "Inductor connection. Drain of the internal power MOSFET. Connect to the switched side of the inductor. SW is high impedance during shutdown.", C3 TX-MASK (in) "RF PA synchronization control input. Pulling this pin high turns the LED from flashlight to DC light operation, thereby reducing almost instantaneously the peak current loading from the battery.", C4 TS (in) "NTC resistor connection. This pin can be used to monitor the LED temperature. Connect a 220k ohm NTC resistor from the TS input to ground. In case this functionality is not desired, the TS input should be tied to AVIN or (See Datasheet)", D1 PGND (power) "Power ground. Connect to AGND underneath IC.", D2 PGND (power) "Power ground. Connect to AGND underneath IC.", D3 NRESET (in) "Master hardware reset input. NRESET = LOW: The device is forced in shutdown mode and the I2C control I/F is reset. NRESET = HIGH: The device is operating normally under the control of the I2C interface.", D4 GPIO/PG (io) "This pin can either be configured as a general purpose input/output pin (GPIO) or either as an open-drain or a push-pull output to signal when the converters output voltage is within the regulation limits (PG). Per default, (See Datasheet)", E1 LED2 (in) "LED return input. This feedback pin regulates the LED current through the internal sense resistor by regulating the voltage across it. The regulation operates with typically 400mV (HC_SEL = L) or 400mV (HC_SEL = H) dropout (See Datasheet)", E2 LED1 (in) "LED return input. This feedback pin regulates the LED current through the internal sense resistor by regulating the voltage across it. The regulation operates with typically 400mV (HC_SEL = L) or 400mV (HC_SEL = H) dropout (See Datasheet)", E3 LED3 (in) "LED return input. This feedback pin regulates the LED current through the internal sense resistor by regulating the voltage across it. The regulation operates with typically 400mV (HC_SEL = L) or 400mV (HC_SEL = H) dropout (See Datasheet)", E4 AVIN (power) "This is the input voltage pin of the device. Connect directly to the input bypass capacitor."

## TPS61305YFFT
designator U?
1.5 A / 4.1 A Multiple LED Camera Flash Driver with I2C Compatible Interface and LED Temp Monitoring, 2.5 to 5.5 V, -40 to 85 degC, 20-pin BGA (YFF20), Green (RoHS & no Sb/Br); Manufacturer: Texas Instruments; PartNumber: TPS61305YFFT; Dimming: TRUE; Iout(Max)(A): 1.25; Iq(Typ)(mA): 0.59; Rating: Catalog; SubFamily: White LED Driver; Switching Frequency(Max)(kHz): 2000; Topology: Boost; Vin(Max)(V): 5.5; Vin(Min)(V): 2.5; DatasheetVersion: SLVS957D; PackageVersion: 4207625-9/AJ; PackageReference: YFF20; PackageDescription: 20-Ball, Silicon Grid Array, Body Size 2.17 x 1.93 mm, Pitch 0.4 mm; Supplier 1: Digi-Key; Supplier Part Number 1: 296-28023-2-ND; Supplier 2: Digi-Key; Supplier Part Number 2: 296-28023-1-ND; Supplier 3: Digi-Key; Supplier Part Number 3: 296-28023-6-ND; Supplier 4: Mouser; Supplier Part Number 4: 595-TPS61305YFFT; Eco-Plan: Green (RoHS & no Sb/Br); Synchronous Rectification: TRUE; Mounting Technology: Surface Mount; ComponentLink1Description: Manufacturer URL; ComponentLink1URL: http://www.ti.com/; ComponentLink2Description: Datasheet; ComponentLink2URL: http://www.ti.com/general/docs/lit/getliterature.tsp?genericPartNumber=TPS61305&fileType=pdf; ComponentLink3Description: Package Specification; ComponentLink3URL: http://www.ti.com/lit/ds/symlink/tps61300.pdf
footprint TI-YFF20-2170X1928DE (BGA, 20-Balls, Body 2.17x1.928mm, Pitch 0.4mm)
pins: A1 INDLED (power) "This pin provides a constant current source to drive low VF LEDs. Connect to LED anode.", A2 VOUT (power) "This is the output voltage pin of the converter", A3 BAL (out) "Balancing output for dual cells super-capacitor. In steady-state operation, this output compensates for leakage current mismatch between the cells.", A4 AGND (power) "Analog ground.", B1 SDA (io) "Serial interface address/data line. This pin must not be left floating and must be terminated", B2 SCL (in) "Serial interface clock line. This pin must not be left floating and must be terminated.", B3 HC_SEL (in) "Extended high-current mode selection input. This pin must not be left floating and must be terminated. HC_SEL = LOW: LED direct drive mode. The power stage is active and the maximum LED currents are defined as (See Datasheet)", B4 FLASH_SYNC (in) "Flashlight strobe pulse synchronization input. FLASH_SYNC = LOW: The device is operating and regulating the LED current to the DC light current level (DCLC). FLASH_SYNC = HIGH: The device is operating and regulating the LED (See Datasheet)", C1 SW (power) "Inductor connection. Drain of the internal power MOSFET. Connect to the switched side of the inductor. SW is high impedance during shutdown.", C2 SW (power) "Inductor connection. Drain of the internal power MOSFET. Connect to the switched side of the inductor. SW is high impedance during shutdown.", C3 TX-MASK (in) "RF PA synchronization control input. Pulling this pin high turns the LED from flashlight to DC light operation, thereby reducing almost instantaneously the peak current loading from the battery.", C4 TS (in) "NTC resistor connection. This pin can be used to monitor the LED temperature. Connect a 220k ohm NTC resistor from the TS input to ground. In case this functionality is not desired, the TS input should be tied to AVIN or (See Datasheet)", D1 PGND (power) "Power ground. Connect to AGND underneath IC.", D2 PGND (power) "Power ground. Connect to AGND underneath IC.", D3 NRESET (in) "Master hardware reset input. NRESET = LOW: The device is forced in shutdown mode and the I2C control I/F is reset. NRESET = HIGH: The device is operating normally under the control of the I2C interface.", D4 GPIO/PG (io) "This pin can either be configured as a general purpose input/output pin (GPIO) or either as an open-drain or a push-pull output to signal when the converters output voltage is within the regulation limits (PG). Per default, (See Datasheet)", E1 LED2 (in) "LED return input. This feedback pin regulates the LED current through the internal sense resistor by regulating the voltage across it. The regulation operates with typically 400mV (HC_SEL = L) or 400mV (HC_SEL = H) dropout (See Datasheet)", E2 LED1 (in) "LED return input. This feedback pin regulates the LED current through the internal sense resistor by regulating the voltage across it. The regulation operates with typically 400mV (HC_SEL = L) or 400mV (HC_SEL = H) dropout (See Datasheet)", E3 LED3 (in) "LED return input. This feedback pin regulates the LED current through the internal sense resistor by regulating the voltage across it. The regulation operates with typically 400mV (HC_SEL = L) or 400mV (HC_SEL = H) dropout (See Datasheet)", E4 AVIN (power) "This is the input voltage pin of the device. Connect directly to the input bypass capacitor."

## TPS61310YFFR
designator U?
1.5 A Multiple LED Camera Flash Driver with I2C Compatible Interface, 2.5 to 5.5 V, -40 to 85 degC, 20-pin BGA (YFF20), Green (RoHS & no Sb/Br); Manufacturer: Texas Instruments; PartNumber: TPS61310YFFR; Dimming: TRUE; Iout(Max)(A): 1.5; Iq(Typ)(mA): 0.59; Rating: Catalog; SubFamily: White LED Driver; Switching Frequency(Max)(kHz): 2000; Topology: Boost; Vin(Max)(V): 5.5; Vin(Min)(V): 2.5; DatasheetVersion: SLVS978C; PackageVersion: 4207625-9/AJ; PackageReference: YFF20; PackageDescription: 20-Ball, Silicon Grid Array, Body Size 2.17 x 1.93 mm, Pitch 0.4 mm; Supplier 1: Digi-Key; Supplier Part Number 1: 296-27243-2-ND; Supplier 2: Digi-Key; Supplier Part Number 2: 296-27243-1-ND; Supplier 3: Digi-Key; Supplier Part Number 3: 296-27243-6-ND; Supplier 4: Newark; Supplier Part Number 4: 72R6648; Supplier 5: Mouser; Supplier Part Number 5: 595-TPS61310YFFR; Eco-Plan: Green (RoHS & no Sb/Br); Synchronous Rectification: TRUE; Mounting Technology: Surface Mount; ComponentLink1Description: Manufacturer URL; ComponentLink1URL: http://www.ti.com/; ComponentLink2Description: Datasheet; ComponentLink2URL: http://www.ti.com/general/docs/lit/getliterature.tsp?genericPartNumber=TPS61310&fileType=pdf; ComponentLink3Description: Package Specification; ComponentLink3URL: http://www.ti.com/lit/ds/symlink/tps61300.pdf
footprint TI-YFF20-2170X1928DE (BGA, 20-Balls, Body 2.17x1.928mm, Pitch 0.4mm)
pins: A1 INDLED (power) "This pin provides a constant current source to drive low VF LEDs. Connect to LED anode.", A2 VOUT (power) "This is the output voltage pin of the converter.", A3 AGND (power) "Analog ground.", A4 AGND (power) "Analog ground.", B1 SDA (io) "Serial interface address/data line. This pin must not be left floating and must be terminated.", B2 SCL (in) "Serial interface clock line. This pin must not be left floating and must be terminated.", B3 NRESET (in) "Master hardware reset input. NRESET = LOW: The device is forced in shutdown mode and the I2C control I/F and all internal control registers are reset. NRESET = HIGH: The device is operating normally under the control of the (See Datasheet)", B4 STRB0 (in) "LED1/2/3 enable logic input. This pin can be used to enable/disable the high-power LEDs connected to the device. STRB0 = LOW: LED1, LED2 and LED3 current regulators are turned off. STRB0 = HIGH: LED2, LED2 and LED3 current (See Datasheet)", C1 SW (power) "Inductor connection. Drain of the internal power MOSFET. Connect to the switched side of the inductor. SW is high impedance during shutdown.", C2 SW (power) "Inductor connection. Drain of the internal power MOSFET. Connect to the switched side of the inductor. SW is high impedance during shutdown.", C3 TX-MASK (in) "RF PA synchronization control input. Pulling this pin high turns the LED from flash to video light operation, thereby reducing almost instantaneously the peak current loading from the battery.", C4 TS (in) "NTC resistor connection. This pin can be used to monitor the LED temperature. Connect a 220k ohm NTC resistor from the TS input to ground. In case this functionality is not desired, the TS input should be tied to AVIN or (See Datasheet)", D1 PGND (power) "Power ground. Connect to AGND underneath IC.", D2 PGND (power) "Power ground. Connect to AGND underneath IC.", D3 STRB1 (in) "LED current level selection input. Pulling this input high disables the video light watchdog timer. STRB1 = LOW: flash mode is enabled. STRB1 = HIGH: video light mode is enabled.", D4 GPIO/PG (io) "This pin can either be configured as a general purpose input/output pin (GPIO) or either as an open-drain or a push-pull output to signal when the converters output voltage is within the regulation limits (PG). Per default, (See Datasheet)", E1 LED2 "LED return input (current sinks). This feedback pin regulates the LED current through the internal sense resistor by regulating the voltage across it. Connect to the cathode of the white LEDs.", E2 LED1 "LED return input (current sinks). This feedback pin regulates the LED current through the internal sense resistor by regulating the voltage across it. Connect to the cathode of the white LEDs.", E3 LED3 "LED return input (current sinks). This feedback pin regulates the LED current through the internal sense resistor by regulating the voltage across it. Connect to the cathode of the white LEDs.", E4 AVIN (power) "This is the input voltage pin of the device. Connect directly to the input bypass capacitor."